# Altium footprint library OSTOQ045450.PcbLib: 1 footprints
Each footprint in its own frame and in the unit in brackets; x right, y up, seen from the top. Pads: shape width x height; smd on the part's side, far side on the other; paste and mask are expansions set on the pad; w line width, h text height; cw(c..) or ccw(c..) is an arc to the next point about the centre after c.
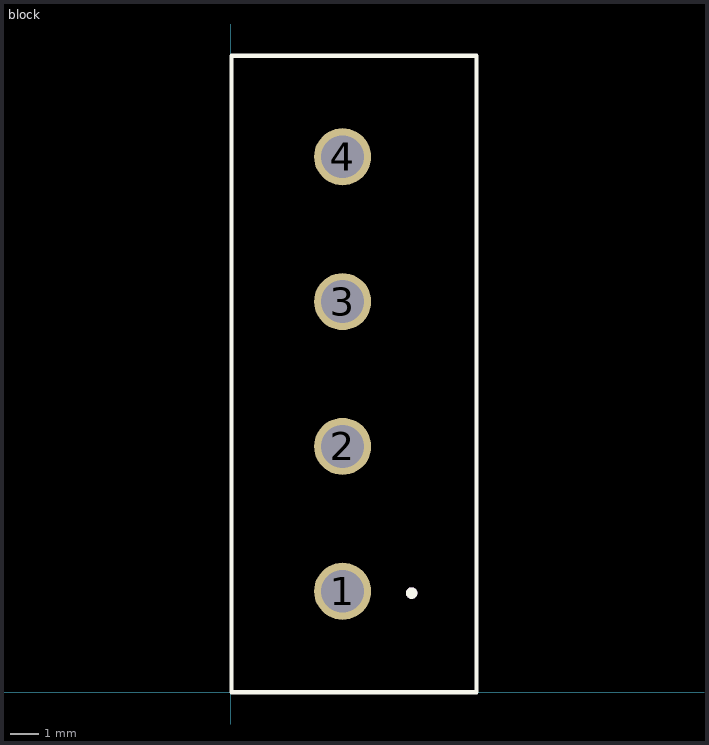
[diagram p0: the footprint, top view; thin cyan lines are the x and y axes]

## block [mm]
pads (4):
  round 2 hole 1.5: 1(3.927,3.54) 2(3.927,8.62) 3(3.927,13.7) 4(3.927,18.78)
Top Overlay:
  circle w0.2: c6.35,3.476 r0.1
  lines w0.15: 0.027,0 8.627,0 8.627,22.32 0.027,22.32 0.027,0
Mechanical 13:
  circle w0.2: c6.35,3.476 r0.1